# EAGLE library part LCD_BL_16X2 (library lcdmodules2)
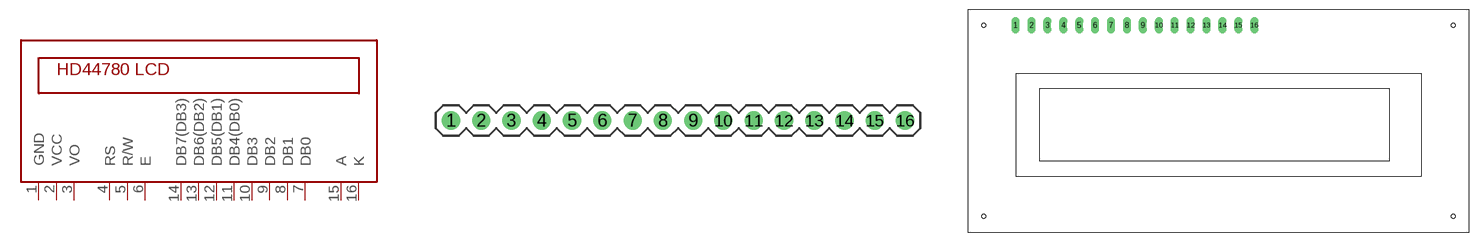
[diagram p0: symbol with the pads of HEADER_16; footprints HEADER_16, LCD_BL_16X2]

Designator prefix U

## LCD_BL_16X2  [HEADER_16]
1  GND  pwr
2  VCC  pwr
3  VO  pwr
4  RS
5  R/W
6  E
7  DB0
8  DB1
9  DB2
10  DB3
11  DB4(DB0)
12  DB5(DB1)
13  DB6(DB2)
14  DB7(DB3)
15  A  pwr
16  K  pwr

## LCD_BL_16X2_FLAT  [LCD_BL_16X2]
Pads as for HEADER_16

## LCD_BL_16X2_LOW  [YM1602G_LOWCON]
Pads as for HEADER_16

## Footprint HEADER_16 (pad centres in mm)
drill 1.016: 1 0,0; 2 2.54,0; 3 5.08,0; 4 7.62,0; 5 10.16,0; 6 12.7,0; 7 15.24,0; 8 17.78,0; 9 20.32,0; 10 22.86,0; 11 25.4,0; 12 27.94,0; 13 30.48,0; 14 33.02,0; 15 35.56,0; 16 38.1,0

## Footprint LCD_BL_16X2 (pad centres in mm)
drill 0.8 long: 1 0,0; 2 2.54,0; 3 5.08,0; 4 7.62,0; 5 10.16,0; 6 12.7,0; 7 15.24,0; 8 17.78,0; 9 20.32,0; 10 22.86,0; 11 25.4,0; 12 27.94,0; 13 30.48,0; 14 33.02,0; 15 35.56,0; 16 38.1,0
hole 0.6 at -5.08,0
hole 0.6 at -5.08,-30.48
hole 0.6 at 69.85,0
hole 0.6 at 69.85,-30.48

## Footprint YM1602G_LOWCON (pad centres in mm)
drill 0.8 long: 1 0.905,-15.375; 2 -1.635,-15.375; 3 -4.175,-15.375; 4 -6.715,-15.375; 5 -9.255,-15.375; 6 -11.795,-15.375; 7 -14.335,-15.375; 8 -16.875,-15.375; 9 -19.415,-15.375; 10 -21.955,-15.375; 11 -24.495,-15.375; 12 -27.035,-15.375; 13 -29.575,-15.375; 14 -32.115,-15.375; 15 3.445,-15.375; 16 5.985,-15.375
hole 2.5 at -37.703,15.613
hole 2.5 at -37.703,-15.375
hole 2.5 at 37.227,-15.375
hole 2.5 at 37.227,15.613